# EAGLE library part DUE_FOR_AD9954_CS_ARDUINO_DUE (library Low.Noise.Current.Source)
Device for representing an Arduino Due board with a footprint in an EAGLE design. Created by Dave Young for Element14. More EAGLE documentation at: http://www.element14.com/community/community/knode/cadsoft_eagle
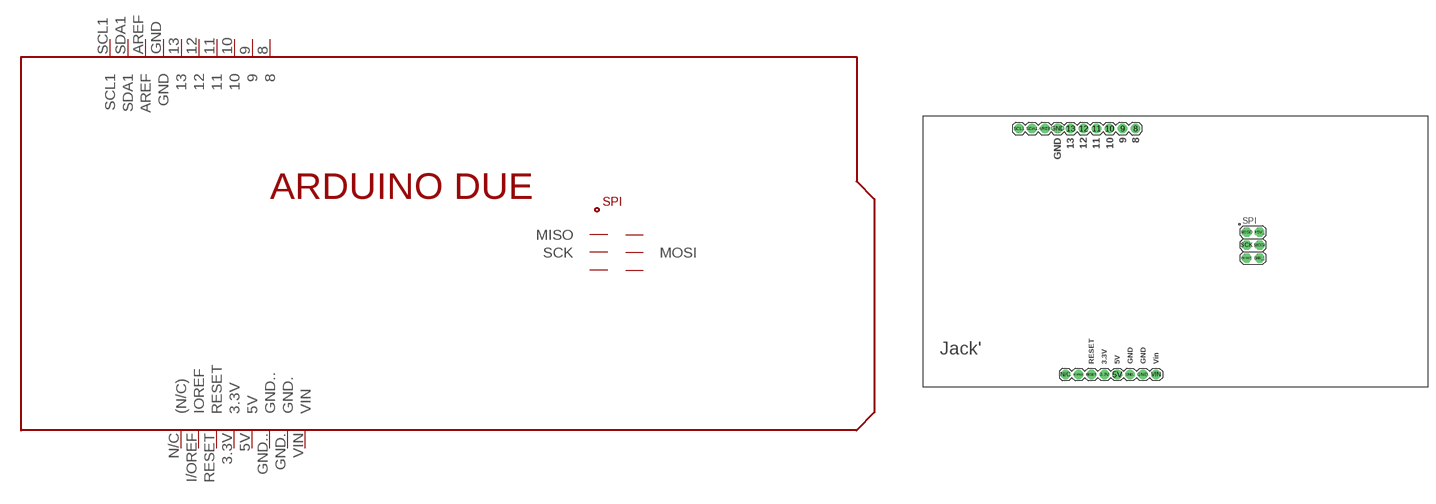
[diagram p1: symbol with the pads of DUE_FOR_AD9954_CS_ARDUINO_DUE; footprint DUE_FOR_AD9954_CS_ARDUINO_DUE]

Designator prefix PCB

## DUE_FOR_AD9954_CS_ARDUINO_DUE  [DUE_FOR_AD9954_CS_ARDUINO_DUE]
3.3V  3.3V
5V  5V
8  8
9  9
10  10
11  11
12  12
13  13
+5V_  +5V_
AREF  AREF
GND  GND
GND.  GND.
GND..  GND..
GND__  GND__
I/OREF  IOREF
MISO  MISO
MOSI  MOSI
N/C  (N/C)
RESET  RESET
RESET.  RESET.
SCK  SCK
SCL1  SCL1
SDA1  SDA1
VIN  VIN

## Footprint DUE_FOR_AD9954_CS_ARDUINO_DUE (pad centres in mm)
Footprint for representing an Arduino Due board in an EAGLE schematic. Created by Dave Young for Element14. More EAGLE documentation at: http://www.element14.com/community/community/knode/cadsoft_eagle
drill 1.016 pad 1.88: 3.3V 35.56,2.54; 5V 38.1,2.54; 8 41.656,50.8; 9 39.116,50.8; 10 36.576,50.8; 11 34.036,50.8; 12 31.496,50.8; 13 28.956,50.8; AREF 23.876,50.8; GND 26.416,50.8; GND. 43.18,2.54; GND.. 40.64,2.54; I/OREF 30.48,2.54; N/C 27.94,2.54; RESET 33.02,2.54; SCL1 18.796,50.8; SDA1 21.336,50.8; VIN 45.72,2.54
drill 1.016 pad 1.88 octagon: +5V_ 66.04,30.48; GND__ 66.04,25.4; MISO 63.5,30.48; MOSI 66.04,27.94; RESET. 63.5,25.4; SCK 63.5,27.94